# EAGLE library part MODULE-GPS-SMD-MAX-7Q-0(18P-9.6X10MM) (library Seeed-OPL-Moudle)
317050009
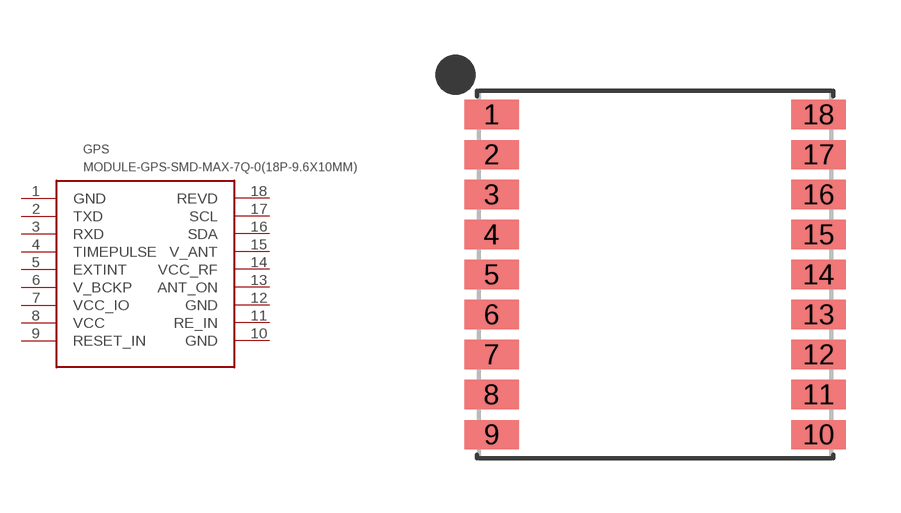
[diagram p4: symbol with the pads of GPS18P-SMD-1.1-10X9.6MM; footprint GPS18P-SMD-1.1-10X9.6MM]

Designator prefix GPS

## MODULE-GPS-SMD-MAX-7Q-0(18P-9.6X10MM) (MPN: MAX-7Q-0; VALUE: 18p-10x9.6mm)  [GPS18P-SMD-1.1-10X9.6MM]
1  GND
2  TXD
3  RXD
4  TIMEPULSE
5  EXTINT
6  V_BCKP
7  VCC_IO
8  VCC
9  RESET_IN
10  GND
11  RE_IN
12  GND
13  ANT_ON
14  VCC_RF
15  V_ANT
16  SDA
17  SCL
18  REVD

## Footprint GPS18P-SMD-1.1-10X9.6MM (pad centres in mm)
smd 1.5 x 0.8: 1 -4.5,4.4; 2 -4.5,3.3; 3 -4.5,2.2; 4 -4.5,1.1; 5 -4.5,0; 6 -4.5,-1.1; 7 -4.5,-2.2; 8 -4.5,-3.3; 9 -4.5,-4.4; 10 4.5,-4.4; 11 4.5,-3.3; 12 4.5,-2.2; 13 4.5,-1.1; 14 4.5,0; 15 4.5,1.1; 16 4.5,2.2; 17 4.5,3.3; 18 4.5,4.4